# EAGLE library part MSP430G2553?20 (library ElevenDroids - ICs)
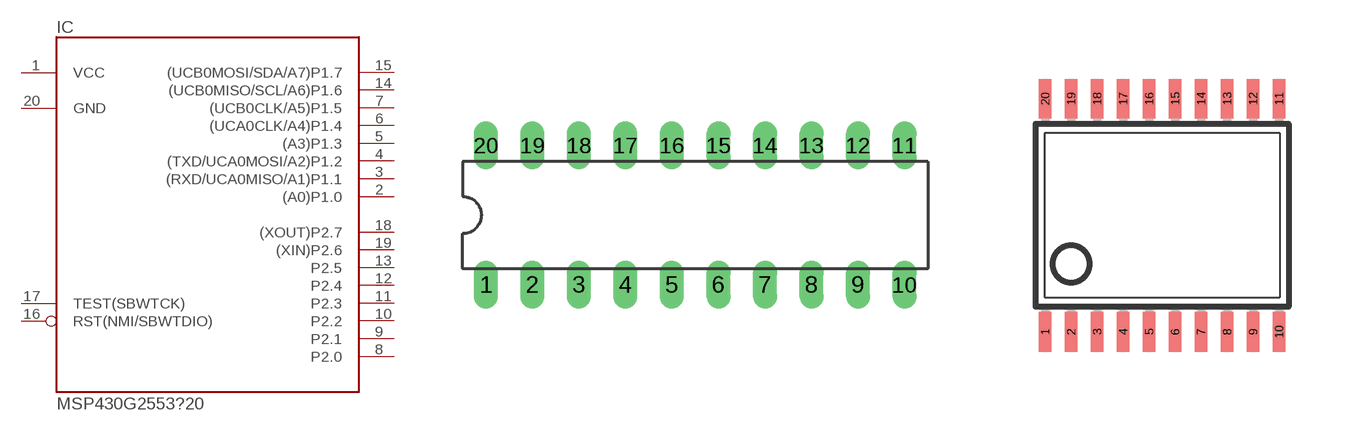
[diagram p2: symbol with the pads of DIL20; footprints DIL20, TSSOP20]

Designator prefix IC

## MSP430G2553IN20  [DIL20]
1  VCC  pwr
2  (A0)P1.0
3  (RXD/UCA0MISO/A1)P1.1
4  (TXD/UCA0MOSI/A2)P1.2
5  (A3)P1.3
6  (UCA0CLK/A4)P1.4
7  (UCB0CLK/A5)P1.5
8  P2.0
9  P2.1
10  P2.2
11  P2.3
12  P2.4
13  P2.5
14  (UCB0MISO/SCL/A6)P1.6
15  (UCB0MOSI/SDA/A7)P1.7
16  RST(NMI/SBWTDIO)
17  TEST(SBWTCK)
18  (XOUT)P2.7
19  (XIN)P2.6
20  GND  pwr

## MSP430G2553IPW20  [TSSOP20]
Pads as for DIL20

## Footprint DIL20 (pad centres in mm)
drill 0.813 long: 1 -11.43,-3.81; 2 -8.89,-3.81; 3 -6.35,-3.81; 4 -3.81,-3.81; 5 -1.27,-3.81; 6 1.27,-3.81; 7 3.81,-3.81; 8 6.35,-3.81; 9 8.89,-3.81; 10 11.43,-3.81; 11 11.43,3.81; 12 8.89,3.81; 13 6.35,3.81; 14 3.81,3.81; 15 1.27,3.81; 16 -1.27,3.81; 17 -3.81,3.81; 18 -6.35,3.81; 19 -8.89,3.81; 20 -11.43,3.81

## Footprint TSSOP20 (pad centres in mm)
Thin Shrink Small Outline Plastic 20 MAX3223-MAX3243.pdf
smd 0.305 x 0.991: 1 -2.925,-2.918; 2 -2.275,-2.918; 3 -1.625,-2.918; 4 -0.975,-2.918; 5 -0.325,-2.918; 6 0.325,-2.918; 7 0.975,-2.918; 8 1.625,-2.918; 9 2.275,-2.918; 10 2.925,-2.918; 11 2.925,2.918; 12 2.275,2.918; 13 1.625,2.918; 14 0.975,2.918; 15 0.325,2.918; 16 -0.325,2.918; 17 -0.975,2.918; 18 -1.625,2.918; 19 -2.275,2.918; 20 -2.925,2.918